# EAGLE library part LM75BD (library NXP_By_element14_Batch_1)
Digital temperature sensor and thermal watchdog
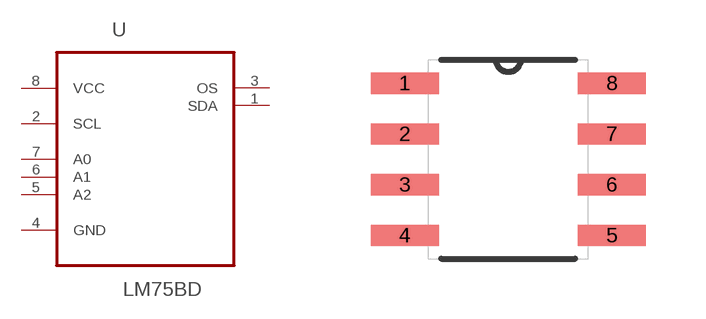
[diagram p307: symbol with the pads of SOIC127P600X175-8N; footprint SOIC127P600X175-8N]

Designator prefix U

## LM75BD (MPN: LM75BD; OC_FARNELL: 1854077; OC_NEWARK: 39T1312; P1I: o; PACKAGE: SO-8; SUPPLIER: NXP)  [SOIC127P600X175-8N]
1  SDA
2  SCL  in
3  OS  out
4  GND  pas
5  A2  in
6  A1  in
7  A0  in
8  VCC  pwr

## Footprint SOIC127P600X175-8N (pad centres in mm)
smd 1.702 x 0.533: 1 -2.591,1.905; 2 -2.591,0.635; 3 -2.591,-0.635; 4 -2.591,-1.905; 5 2.591,-1.905; 6 2.591,-0.635; 7 2.591,0.635; 8 2.591,1.905